# EAGLE library part DRV8350FS?* (library motor_controller)
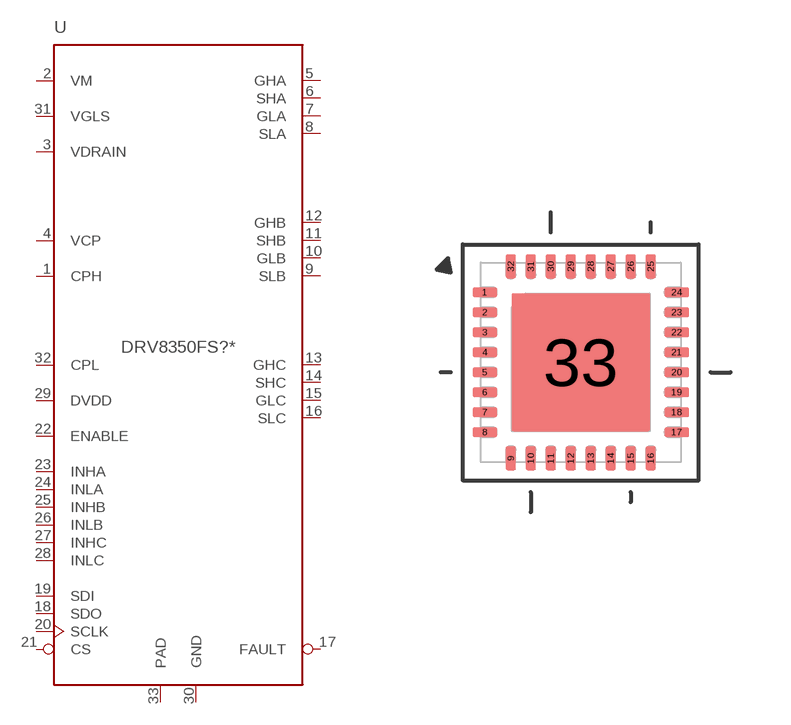
[diagram p2: symbol with the pads of QFN50P500X500X80-33T345; footprint QFN50P500X500X80-33T345]

Designator prefix U

## DRV8350FSRTV, DRV8350FSRTVR (MF: Texas Instruments; MPN: DRV8350FSRTVR)  [QFN50P500X500X80-33T345]
1  CPH  pwr
2  VM  pwr
3  VDRAIN  pwr
4  VCP  pwr
5  GHA  out
6  SHA  pwr
7  GLA  out
8  SLA  pwr
9  SLB  pwr
10  GLB  out
11  SHB  pwr
12  GHB  out
13  GHC  out
14  SHC  pwr
15  GLC  out
16  SLC  pwr
17  FAULT  oc
18  SDO  oc
19  SDI  in
20  SCLK  in
21  CS  in
22  ENABLE  in
23  INHA  in
24  INLA  in
25  INHB  in
26  INLB  in
27  INHC  in
28  INLC  in
29  DVDD  sup
30  GND  pwr
31  VGLS  pwr
32  CPL  pwr
33  PAD  pwr

## Footprint QFN50P500X500X80-33T345 (pad centres in mm)
32-QFN, 0.50 mm pitch, 5.00 X 5.00 X 0.80 mm body, 3.45 X 3.45 mm thermal pad 32-pin QFN package with 0.50 mm pitch with body size 5.00 X 5.00 X 0.80 mm and thermal pad size 3.45 X 3.45 mm
smd 0.6 x 0.24: 1 -2.4,1.75; 2 -2.4,1.25; 3 -2.4,0.75; 4 -2.4,0.25; 5 -2.4,-0.25; 6 -2.4,-0.75; 7 -2.4,-1.25; 8 -2.4,-1.75; 17 2.4,-1.75; 18 2.4,-1.25; 19 2.4,-0.75; 20 2.4,-0.25; 21 2.4,0.25; 22 2.4,0.75; 23 2.4,1.25; 24 2.4,1.75
smd 0.24 x 0.6: 9 -1.75,-2.4; 10 -1.25,-2.4; 11 -0.75,-2.4; 12 -0.25,-2.4; 13 0.25,-2.4; 14 0.75,-2.4; 15 1.25,-2.4; 16 1.75,-2.4; 25 1.75,2.4; 26 1.25,2.4; 27 0.75,2.4; 28 0.25,2.4; 29 -0.25,2.4; 30 -0.75,2.4; 31 -1.25,2.4; 32 -1.75,2.4
smd 3.45 x 3.45: 33 0,0